# Altium footprint library lan_control.PcbLib: 23 footprints (part 1 of 2)
Each footprint in its own frame and in the unit in brackets; x right, y up, seen from the top. Pads: shape width x height; smd on the part's side, far side on the other; paste and mask are expansions set on the pad; w line width, h text height; cw(c..) or ccw(c..) is an arc to the next point about the centre after c.
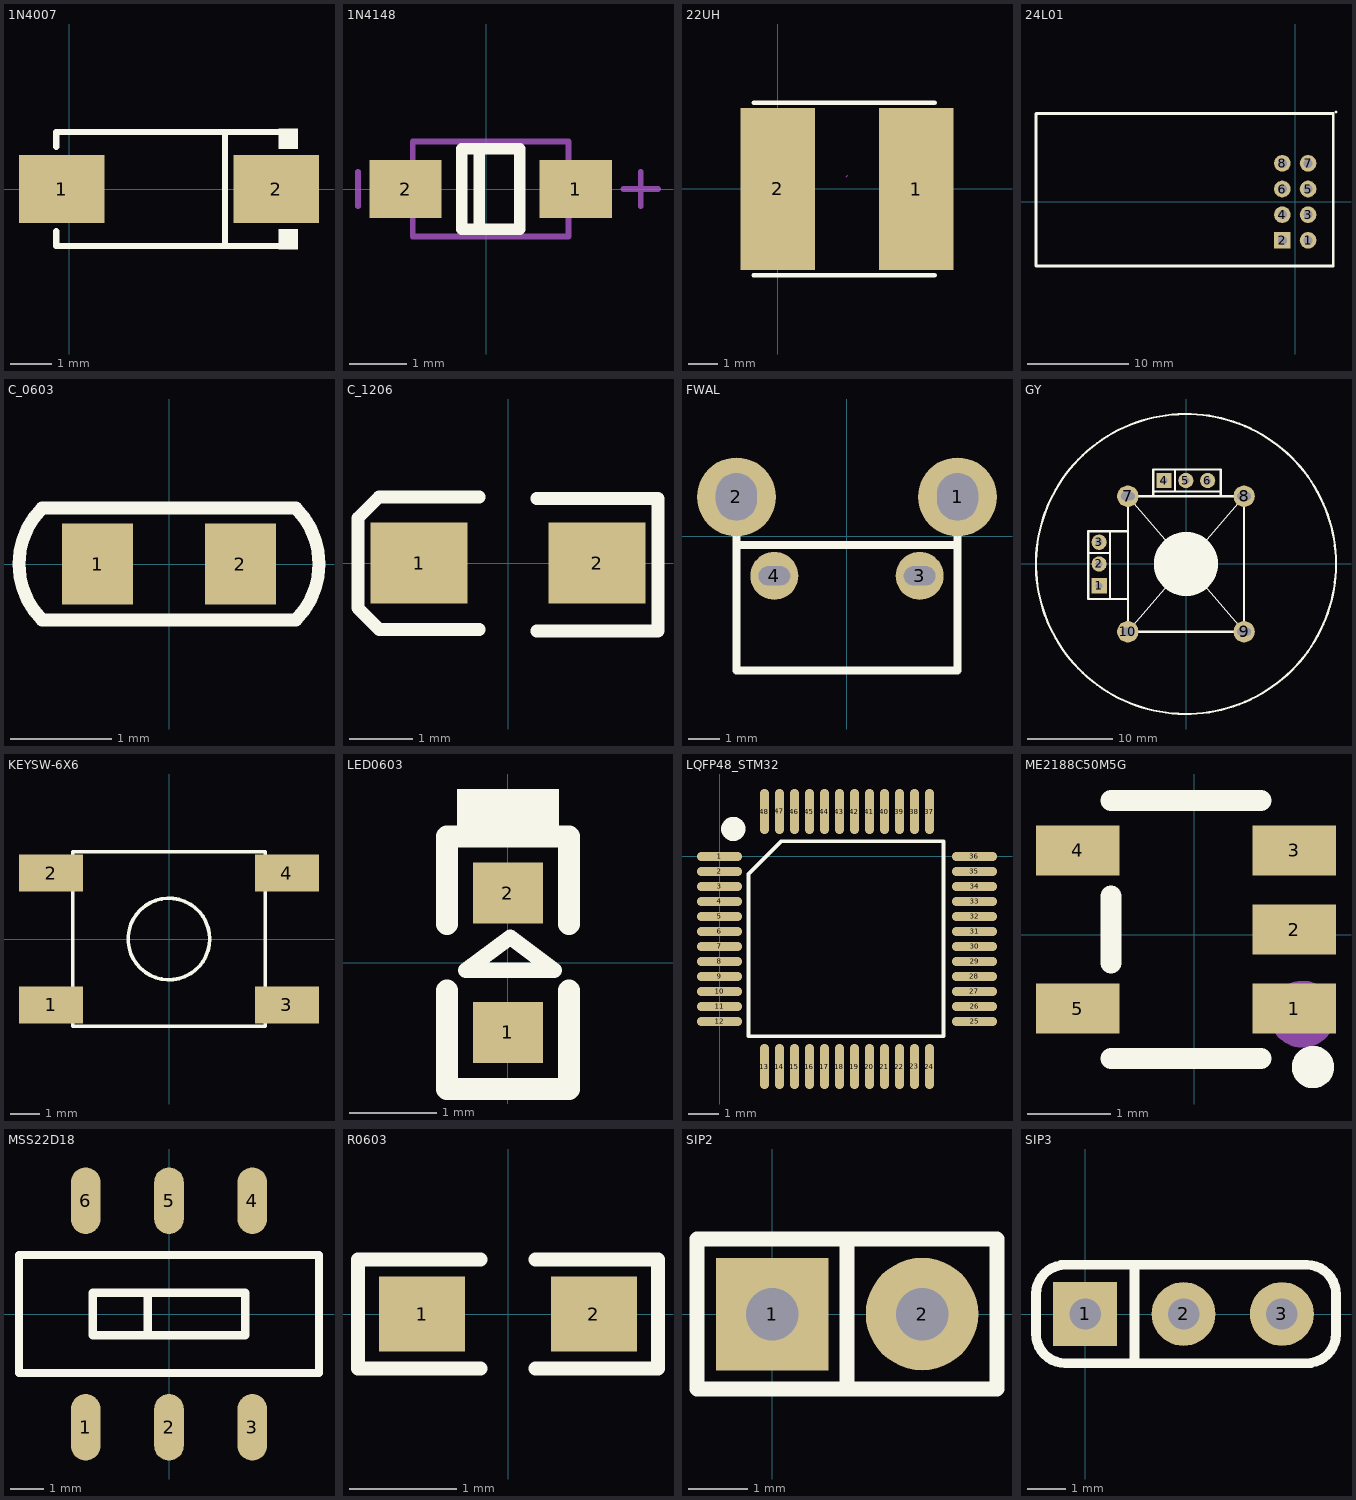
[diagram p0: the footprints below, top view; thin cyan lines are the x and y axes]

## 1N4007 [mm]
height 5.85
pads (2):
  rect 2.046x1.62 smd: 1(-0.178,0) 2(4.953,0)
Top Overlay:
  region: 5.012,-1.44 5.012,-0.962 5.47,-0.962 5.47,-1.44
  region: 5.012,1.44 5.012,0.962 5.47,0.962 5.47,1.44
  lines w0.152: -0.314,-1.013 -0.314,-1.364 5.089,-1.364 ; -0.314,1.013 -0.314,1.364 5.089,1.364 ; 3.726,-1.364 3.726,1.364
Mechanical 15:
  region: 4.819,0.097 4.819,-0.097 4.047,-0.097 4.047,0.097
  region: -0.044,0.097 -0.044,-0.097 0.728,-0.097 0.728,0.097
  region: 0.245,0.644 0.245,-0.644 0.438,-0.644 0.438,0.644

## 1N4148 [mm]
pads (2):
  rect 1.25x1 smd: 1(1.553,0) 2(-1.397,0)
Top Overlay:
  lines w0.2: -0.122,-0.7 -0.122,0.7 ; -0.422,-0.7 -0.422,0.7 0.578,0.7 0.578,-0.7 -0.422,-0.7
Mechanical 13:
  lines w0.1: -1.272,-0.825 1.428,-0.825 1.428,0.825 -1.272,0.825 -1.272,-0.825
Mechanical 15:
  lines w0.1: -2.222,-0.3 -2.222,0.3 ; 2.378,0 2.978,0 ; 2.678,-0.3 2.678,0.3
3D body "SOD123.STEP": height 1.35, standoff 0, extent -1.772,-0.775 1.928,0.775

## 22UH [mil]
pads (2):
  rect 100x216 smd: 1(185.08,0) 2(0,0)
Top Overlay:
  lines w6: -32.45,-115 209.75,-115 ; -32.45,115 209.75,115
Mechanical 15:
  lines w0.1: 91.54,16.25 93.54,18.25

## 24L01 [mil]
height 230.31
pads (8):
  round 65 hole 35: 1(50,-150) 3(50,-50) 4(-50,-50) 5(50,50) 6(-50,50) 7(50,150) 8(-50,150)
  rect 65x65 hole 35: 2(-50,-150)
Top Overlay:
  lines w10: -1010,-250 147.88,-250 147.88,344.07 -1010,344.07 -1010,-250 ; -1010,-250 -1010,-250 ; 158.88,350 158.88,350

## C_0603 [mm]
pads (2):
  rect 0.7x0.8 smd: 1(-0.703,0) 2(0.703,0)
Top Overlay:
  lines w0.127: -1.25,-0.55 cw(c-0.7,0) -1.25,0.55 1.25,0.55 cw(c0.7,0) 1.25,-0.55 -1.25,-0.55
3D body "User Library-CapCeramic_Kemet_0603_1608.STEP": height 0.8, standoff 0, extent -0.8,-0.4 0.8,0.4

## C_1206 [mil]
pads (2):
  rect 60x50 smd: 1(-55,0) 2(55,0)
Top Overlay:
  lines w5: 50.82,39.98 92.72,39.98 ; 60.82,-42.02 92.72,-42.02
  lines w8: -17.82,-41.03 -70.82,-41.03 -79.66,-41.03 -92.82,-27.87 -92.82,-19.03 -92.82,18.75 -92.82,27.93 -79.78,40.97 -70.6,40.97 -17.82,40.97 ; 17.72,-42.02 70.72,-42.02 ; 17.72,39.98 70.72,39.98 ; 44.72,39.98 92.72,39.98 92.72,-42.02 47.72,-42.02
3D body "User Library-cap3216h160.STEP": height 62.99, standoff 0, extent -63,-31.5 62.98,31.5

## FWAL [mm]
height 5.85
pads (4):
  round 2.5 hole 1.3 slot 1.5 at 90 deg: 1(3.5,1.25) 2(-3.5,1.25)
  round 1.524 hole 0.6 slot 1 at 0 deg: 3(2.3,-1.25) 4(-2.3,-1.25)
Top Overlay:
  lines w0.254: -3.5,-0.274 3.5,-0.274 ; -3.5,1.25 -3.5,-4.25 3.5,-4.25 3.5,1.25

## GY [mil]
height 230.31
pads (10):
  rect 70x70 hole 32: 1(-399.12,-100) 4(-100.85,383.25)
  round 70 hole 32: 2(-399.12,0) 3(-399.12,100) 5(-0.85,383.25) 6(99.15,383.25)
  round 98.43 hole 35.43 slot 62.99 at 0 deg: 7(-267.31,311.21) 8(266.69,311.21) 9(266.69,-311.21) 10(-267.31,-311.21)
Top Overlay:
  circle w10: c-0.22,-0.09 r688.98
  circle w196.85: c-0.31,0.21 r48.66
  lines w5: -267.31,-311.21 266.69,311.21 ; -267.31,311.21 266.69,-311.21
  lines w10: -449.12,50 -349.12,50 ; -268.52,150 -349.12,150 ; -268.47,-160.63 -349.12,-160.63 ; -150.85,311.67 -150.85,393.02 ; -50.85,333.25 -50.85,433.25 ; 159.78,312.3 159.78,393.02 ; -349.12,-160.63 -349.12,150 ; -349.12,-160.63 -449.12,-160.63 -449.12,150 -349.12,150 ; -267.31,-311.21 266.69,-311.21 266.69,311.21 -267.31,311.21 -267.31,-311.21 ; -150.85,333.25 159.78,333.25 159.78,433.25 -150.85,433.25 -150.85,333.25

## KEYSW-6X6 [mm]
height 5.85
pads (4):
  rect 2.2x1.27 smd: 1(-4.051,-2.263) 2(-4.051,2.263) 3(4.051,-2.263) 4(4.051,2.263)
Top Overlay:
  circle w0.127: c-0.002,0 r1.4
  lines w0.127: -3.302,-3 -3.302,3 3.302,3 3.302,-3 -3.302,-3

## LED0603 [mm]
height 5.85
pads (2):
  rect 0.8x0.7 smd: 1(0,-0.8) 2(0,0.8)
Top Overlay:
  rectangle: -0.584,1.45 0.584,1.994
  lines w0.178: -0.483,-0.089 0.025,0.292 0.533,-0.089 -0.483,-0.089
  lines w0.254: -0.7,-0.318 -0.7,-1.45 0.7,-1.45 0.7,-0.318 ; -0.7,0.445 -0.7,1.45 0.7,1.45 0.7,0.445

## LQFP48_STM32 [mm]
height 5.85
pads (48):
  oval 1.5x0.3 smd: 1(0,0) 2(0,-0.5) 3(0,-1) 4(0,-1.5) 5(0,-2) 6(0,-2.5) 7(0,-3) 8(0,-3.5) 9(0,-4) 10(0,-4.5) 11(0,-5) 12(0,-5.5) 25(8.5,-5.5) 26(8.5,-5) 27(8.5,-4.5) 28(8.5,-4) 29(8.5,-3.5) 30(8.5,-3) 31(8.5,-2.5) 32(8.5,-2) 33(8.5,-1.5) 34(8.5,-1) 35(8.5,-0.5) 36(8.5,0)
  oval 0.3x1.5 smd: 13(1.5,-7) 14(2,-7) 15(2.5,-7) 16(3,-7) 17(3.5,-7) 18(4,-7) 19(4.5,-7) 20(5,-7) 21(5.5,-7) 22(6,-7) 23(6.5,-7) 24(7,-7) 37(7,1.5) 38(6.5,1.5) 39(6,1.5) 40(5.5,1.5) 41(5,1.5) 42(4.5,1.5) 43(4,1.5) 44(3.5,1.5) 45(3,1.5) 46(2.5,1.5) 47(2,1.5) 48(1.5,1.5)
Top Overlay:
  circle w0.5: c0.459,0.919 r0.155
  lines w0.127: 0.965,-5.994 0.965,-0.584 2.055,0.506 7.465,0.506 7.465,-5.994 0.965,-5.994

## ME2188C50M5G [mm]
pads (5):
  rect 1x0.6 smd: 1(1.203,-0.884) 2(1.203,0.066) 3(1.203,1.016) 4(-1.397,1.016) 5(-1.397,-0.884)
Top Overlay:
  circle w0.254: c1.427,-1.585 r0.127
  lines w0.254: -0.997,-1.484 0.803,-1.484 ; -0.997,-0.334 -0.997,0.466 ; -0.997,1.616 0.803,1.616
Mechanical 15:
  circle w0.4: c1.3,-0.95 r0.2

## MSS22D18 [mm]
height 6
pads (6):
  oval 0.889x2 smd: 1(-2.5,-3.4) 2(0,-3.4) 3(2.5,-3.4) 4(2.5,3.4) 5(0,3.4) 6(-2.5,3.4)
Top Overlay:
  lines w0.254: -0.635,-0.508 -0.635,0.508 ; -4.5,-1.77 4.5,-1.77 4.5,1.77 0,1.77 -4.5,1.77 -4.5,-1.77 ; -2.286,-0.635 0,-0.635 2.286,-0.635 2.286,0.635 0,0.635 -2.286,0.635 -2.286,-0.635
3D body: height 2, standoff 0, extent -4.445,-1.778 4.445,1.778
3D body: height 3, standoff 0, extent -2.286,-0.635 -0.635,0.635
3D body: height 2.1, standoff 0, extent -0.635,-0.635 2.286,0.635

## R0603 [mm]
pads (2):
  rect 0.8x0.7 smd: 1(-0.8,0) 2(0.8,0)
Top Overlay:
  lines w0.127: -0.254,-0.508 -1.397,-0.508 -1.397,0.508 -1.111,0.508 -0.54,0.508 -0.254,0.508 ; 0.254,-0.508 1.397,-0.508 1.397,0.508 0.254,0.508
3D body "User Library-RES_1609-0603.STEP": height 0.56, standoff 0, extent -0.85,-0.406 0.85,0.394

## SIP2 [mil]
height 230.31
pads (2):
  rect 75x75 hole 35: 1(0,0)
  round 75 hole 35: 2(100,0)
Top Overlay:
  lines w10: 50,-50 50,50 ; -50,-50 -50,50 150,50 150,-50 -50,-50

## SIP3 [mil]
pads (3):
  rect 65x65 hole 32: 1(-0.23,0.07)
  round 65 hole 32: 2(99.77,0.07) 3(199.77,0.07)
Top Overlay:
  lines w10: 49.77,-49.93 49.77,50.07 ; 224.63,-49.93 ccw(c224.92,-20.07) 254.77,-20.36 254.77,19.92 ccw(c224.92,20.21) 225.2,50.07 ; 225,-49.93 -20.65,-49.93 cw(c-20.37,-20.07) -50.23,-19.79 -50.23,20.49 cw(c-20.37,20.21) -20.08,50.07 225,50.07
3D body: height 10, standoff 0, extent -49.78,-50 250,49.89